# Altium schematic symbol library NodeIoT.SCHLIB: 93 symbols (part 1 of 2)
Pins are listed as number, name and electrical type; pins without a type are passive.

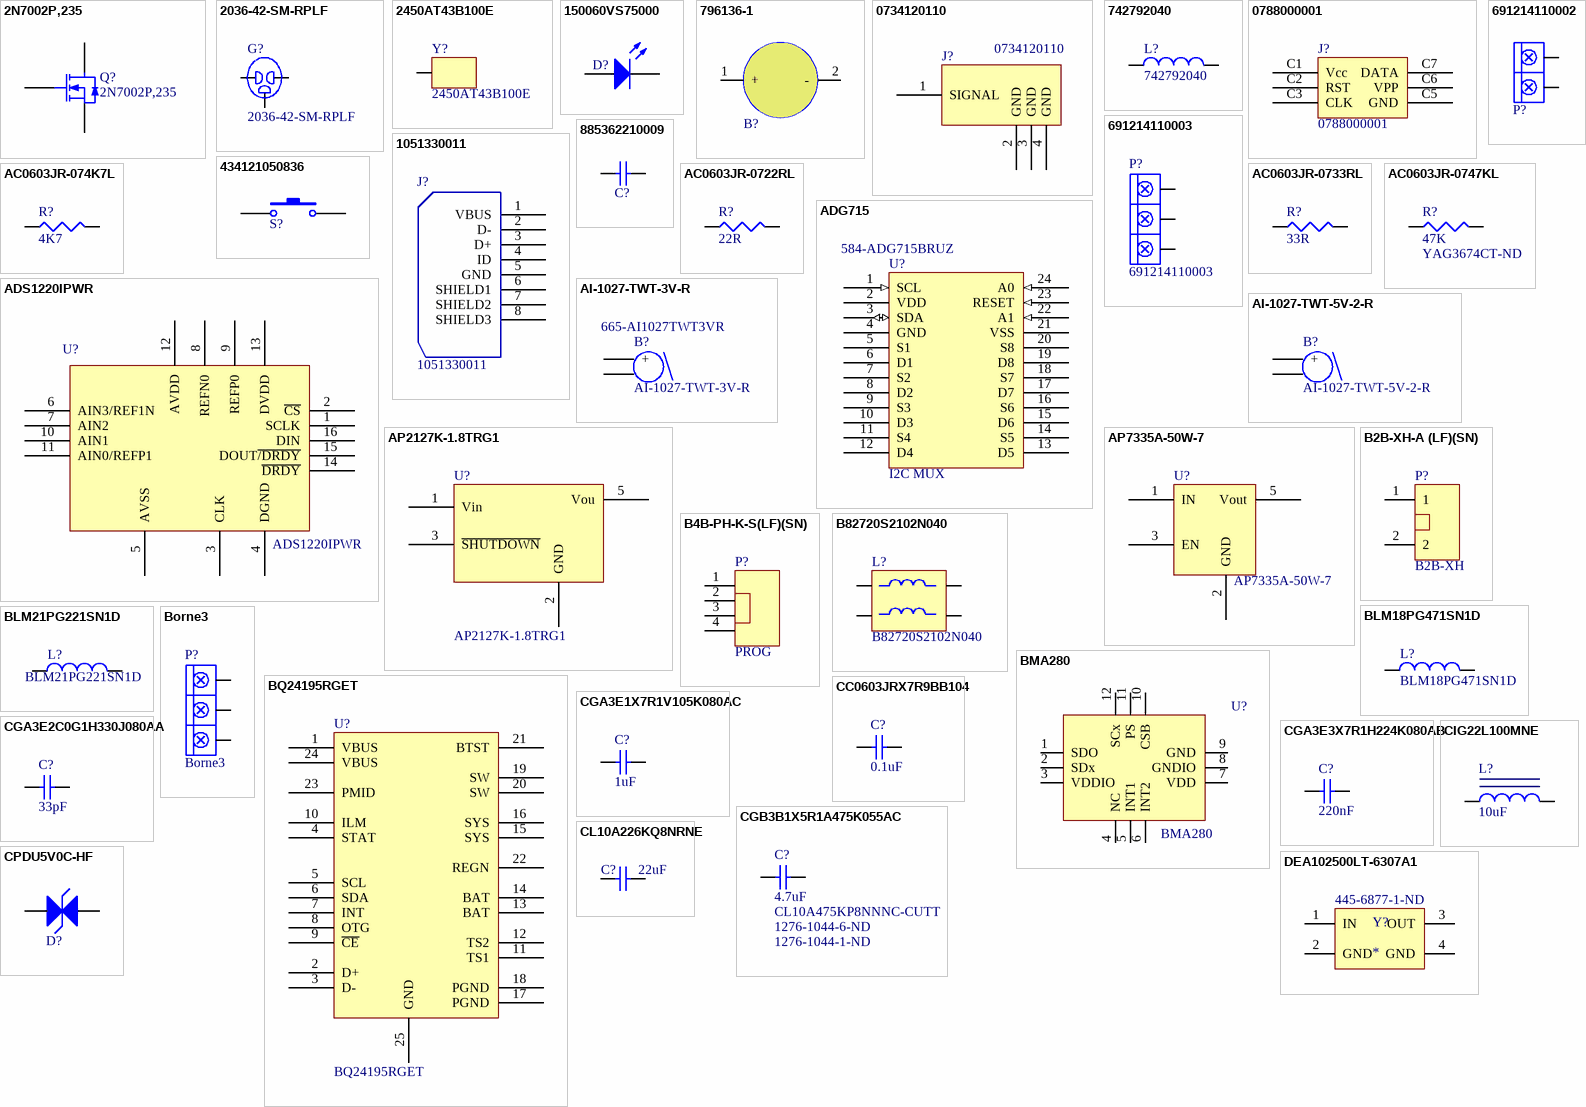
[diagram p0: symbols 2N7002P,235 to DEA102500LT-6307A1]

## 2N7002P,235
designator Q?
MOSFET N-CH 60V 0.36A SOT-23; Manufacturer: Nexperia USA Inc.; Manufacturer Part Number: 2N7002P,215; FET Type: N-Channel; Current - Continuous Drain (Id) @ 25°C: 360mA (Ta); Drive Voltage (Max Rds On,  Min Rds On): 10V; Vgs(th) (Max) @ Id: 2.4V @ 250µA; Vgs (Max): ±20V; Power Dissipation (Max): 350mW (Ta); Rds On (Max) @ Id, Vgs: 1.6 Ohm @ 500mA, 10V; Supplier 1: Digi-Key; Supplier Part Number 1: 1727-4692-1-ND; RoHS: RoHS Compliant; Category: Discrete Semiconductor Products; Stock 1: 0; Pricing 1: 1=0.17, 10=0.159, 100=0.104, 500=0.05082, 1000=0.03466 (USD); Packaging: Cut Tape (CT); Part Status: Active; Technology: MOSFET (Metal Oxide); FET Feature: -; Operating Temperature: -55°C ~ 150°C (TJ); Mounting Type: Surface Mount; Supplier Device Package: TO-236AB (SOT23); Package / Case: TO-236-3, SC-59, SOT-23-3; ComponentLink1URL: https://assets.nexperia.com/documents/data-sheet/2N7002P.pdf; ComponentLink1Description: https://assets.nexperia.com/documents/data-sheet/2N7002P.pdf
footprint SOT-23  Mosfet N (SOT-23 (TO-236))
pins: D, G, S

## 2036-42-SM-RPLF
designator G?
GDT 420V 20% 10KA SURFACE MOUNT; Manufacturer: Bourns Inc.; Impulse Discharge Current (8/20µs): 10000A (10kA); Fail Short: No; Supplier 1: Digi-Key; Manufacturer Part Number: 2036-42-SM-RPLF; RoHS: RoHS Compliant; Category: Circuit Protection; Stock 1: 660; Pricing 1: 1=2.25, 5=2.146, 10=2.038, 50=1.6446, 100=1.3943, 250=1.35852, 500=1.144 (USD); Packaging: Cut Tape (CT); Part Status: Active; Tolerance: ±20%; Mounting Type: Surface Mount; Package / Case: 3-SMD Cylinder Square End; ComponentLink1URL: http://www.bourns.com/docs/Product-Datasheets/2036-xx-SM.pdf; ComponentLink1Description: http://www.bourns.com/docs/Product-Datasheets/2036-xx-SM.pdf; Supplier Part Number 1: 2036-42-SM-RPLFCT-ND
footprint 2036-xx-SM (GDT)
pins: 1, 2, 3

## 2450AT43B100E
designator Y?
RF ANT 2.4GHZ CHIP SOLDER SMD; Manufacturer: Johanson; Impedance: 50R; Power Rating: 2W; Number of Bands: 1; Return Loss: -9.5dB; Max Frequency: 2.5GHz; Gain: -0.5dB; Supplier 1: Digi-Key; Manufacturer Part Number: 2450AT43B100E; Stock 1: 201986; Pricing 1: 1 = 0,78000, 10 = 0,68100, 25 = 0,60360, 100 = 0,52560, 250 = 0,45748, 500 = 0,38934 (USD); RoHS: Yes; Mount: Surface Mount; Case/Package: SMD/SMT; Number of Pins: 4; Contact Plating: Tin; Package Quantity: 1; Packaging: Tape and Reel; Max Power Dissipation: 2W; Termination: Solder; Frequency: 2.4GHz; Length: 7mm; Height: 0.079inch; Width: 2mm; Radiation Hardening: No; REACH SVHC: Unknown; ComponentLink1URL: https://datasheet.ciiva.com/2792/jti-antenna-2450at43b100-09042008-2792593.pdf?src-supplier=Digi-Key; ComponentLink1Description: https://datasheet.ciiva.com/2792/jti-antenna-2450at43b100-09042008-2792593.pdf?src-supplier=Digi-Key; ComponentLink2URL: https://datasheet.ciiva.com/24068/2450at43b100-242468-24068034.pdf?src-supplier=Mouser; ComponentLink2Description: https://datasheet.ciiva.com/24068/2450at43b100-242468-24068034.pdf?src-supplier=Mouser; ComponentLink3URL: https://datasheet.ciiva.com/7633/1860765-7633973.pdf?src-supplier=Element14; ComponentLink3Description: https://datasheet.ciiva.com/7633/1860765-7633973.pdf?src-supplier=Element14; Supplier Part Number 1: 712-1010-1-ND
footprint 2450AT43B100E
pins: 1

## 150060VS75000
designator D?  (value not drawn)
LED GREEN CLEAR 0603 SMD; Manufacturer: Wurth Electronics Inc.; Lens Color: Colorless; Millicandela Rating: 40mcd; Lens Style/Size: Rectangle with Flat Top, 1.10mm x 0.70mm; Voltage - Forward (Vf) (Typ): 2V; Current - Test: 20mA; Viewing Angle: 140°; Wavelength - Dominant: 570nm; Wavelength - Peak: 572nm; Supplier 1: Digi-Key; Supplier Part Number 1: 732-4980-1-ND; Manufacturer Part Number: 150060VS75000; RoHS: RoHS Compliant; Category: Optoelectronics; Stock 1: 12427; Pricing 1: 1=0.14, 50=0.129, 100=0.11, 500=0.095 (USD); Packaging: Cut Tape (CT); Part Status: Active; Color: Green; Lens Transparency: Clear; Mounting Type: Surface Mount; Features: -; Package / Case: 0603 (1608 Metric); Supplier Device Package: 0603; Size / Dimension: 1.60mm L x 0.80mm W; Height (Max): 0.80mm; ComponentLink1URL: http://katalog.we-online.de/led/datasheet/150060VS75000.pdf; ComponentLink1Description: http://katalog.we-online.de/led/datasheet/150060VS75000.pdf
footprint L603_Green
pins: 1 A, 2 K

## 796136-1
designator B?  (value not drawn)
Coin Cell Battery Holders ASSY SMT BATTERY CO; Manufacturer: TE Connectivity AMP Connectors; Battery Type, Function: Coin Cell, Holder; Style: Holder (Open); Battery Cell Size: Coin, 20.0mm; Number of Cells: 1; Battery Series: 2032; Supplier 1: Digi-Key; Supplier Part Number 1: A99327CT-ND; Manufacturer Part Number: 796136-1; Stock 1: 1935; Pricing 1: 1=2.3, 10=2.074, 50=1.3826 (USD); Category: Battery Products; Mounting Type: PCB, Surface Mount; Termination Style: SMD (SMT) Tab; Height Above Board: 0.260" (6.60mm); ComponentLink1URL: http://www.te.com/commerce/DocumentDelivery/DDEController?Action=srchrtrv&DocNm=796136&DocType=Customer+Drawing&DocLang=English; ComponentLink1Description: http://www.te.com/commerce/DocumentDelivery/DDEController?Action=srchrtrv&DocNm=796136&DocType=Customer+Drawing&DocLang=English; RoHS: RoHS Compliant; Part Status: Active; Operating Temperature: -
footprint 796136-1
pins: 1 +, 2 -

## 0734120110
designator J?
CONN UMC RCPT STR 50 OHM SMD; Manufacturer: Molex, LLC; Connector Style: Ultra Miniature Coaxial; Connector Type: Receptacle, Male Pin; Contact Termination: Solder; Impedance: 50 Ohm; Body Material: Phosphor Bronze; Body Finish: Nickel; Center Contact Plating: Gold; Dielectric Material: Liquid Crystal Polymer (LCP); Center Contact Material: Brass; Mating Cycles: 30; Supplier 1: Digi-Key; Manufacturer Part Number: 0734120110; RoHS: RoHS Compliant; Category: Connectors, Interconnects; Stock 1: 48500; Pricing 1: 1=0.73, 10=0.688, 25=0.6188, 50=0.5502, 100=0.5273, 250=0.4814, 500=0.45848, 1000=0.37825, 2500=0.34386 (USD); Packaging: Cut Tape (CT); Part Status: Active; Shield Termination: Solder; Mounting Type: Surface Mount; Mounting Feature: -; Cable Group: -; Fastening Type: Snap-On; Features: -; Housing Color: Silver; Ingress Protection: -; Includes: -; Operating Temperature: -40°C ~ 90°C; Insertion Loss: -; ComponentLink1URL: http://www.molex.com/pdm_docs/sd/734120110_sd.pdf; ComponentLink1Description: http://www.molex.com/pdm_docs/sd/734120110_sd.pdf; Supplier Part Number 1: WM5587CT-ND
footprint 0734120110
pins: 1 SIGNAL, 2 GND, 3 GND, 4 GND

## 742792040
designator L?
FERRITE BEAD 600 OHM 2.0A 0805; Manufacturer: Wurth Electronics; Catalog Drawings: WE-CBF Series_0805 Side WE-CBF Series_0805 Top; Design Resources: Spice Model Library; Featured Product: Chip Bead Ferrites WE-CBF; 3D Model: CBF 0805.igs CBF 0805.stp CBF 0805.wrl; Filter Type: Signal Line; Number of Lines: 1; Impedance @ Frequency: 600 Ohm @ 100MHz; Current Rating (Max): 2A; DC Resistance (DCR) (Max): 150 mOhm; Online Catalog: WE-CBF Series; Kits: 732-1916-ND  - KIT FERRITE SMD 0402-0805 SIZES 732-1644-ND  - KIT DESIGN FERRITE CHIP BEAD; Related Products: MAX9736AETJ+TTR-ND  - IC AMP AUDIO 35W MONO D 32TQFN MAX9736AETJ+TCT-ND  - IC AMP AUDIO 35W MONO D 32TQFN MAX9736AETJ+TDKR-ND  - IC AMP AUDIO 35W MONO D 32TQFN 296-24928-5-ND  - IC IEEE 802.3-2005 POE 14TSSOP 296-23547-5-ND  - IC IEEE 802.3-2005 POE 14-TSSOP MAX98400AETX+-ND  - IC AMP AUDIO STEREO D 36TQFN MAX9736AETJ+-ND  - IC AMP AUDIO 35W MONO D 32TQFN 296-39366-2-ND  - IC IEEE 802.3-2005 POE 14TSSOP MAX98400BETG+TR-ND  - IC AMP AUDIO STEREO D 24TQFN 296-39365-2-ND  - IC POE INTERFACE SWITCH 14TSSOP MAX98400BETG+-ND  - IC AMP AUDIO STEREO D 24TQFN MAX9736DETJ+-ND  - IC AMP CLASS D HIGH PWR 32TQFN TPS23753PWRG4-ND  - IC IEEE 802.3-2005 POE 14-TSSOP MAX98400AETX+T-ND  - IC AMP AUDIO STEREO D 36TQFN MAX9736DETJ+T-ND  - IC AMP CLASS D HIGH PWR 32TQFN MAX9736AETJ/V+T-ND  - IC AMP MONO/STER CLASS D 32TQFN TPS23753PWG4-ND  - IC IEEE 802.3-2005 POE 14-TSSOP MAX9736AETJ/V+-ND  - IC AMP MONO/STER CLASS D 32TQFN; Other Names: 732-1620-1; Supplier 1: Digi-Key; Supplier Part Number 1: 732-1620-6-ND; Manufacturer Part Number: 742792040; Stock 1: 171987; Pricing 1: 1=0.22, 50=0.21, 100=0.193, 500=0.185, 1000=0.176, 2000=0.168 (USD); Standard Package: 1; Category: Filters; Family: Ferrite Beads and Chips; Series: WE-CBF; Packaging: Cut Tape (CT); Ratings: -; Operating Temperature: -55°C ~ 125°C; Package / Case: 0805 (2012 Metric); Mounting Type: Surface Mount; Height (Max): 0.043" (1.10mm); Size / Dimension: 0.079" L x 0.047" W (2.00mm x 1.20mm); ComponentLink1URL: https://datasheet.ciiva.com/1560/742792040-1560864.pdf; ComponentLink1Description: https://datasheet.ciiva.com/1560/742792040-1560864.pdf
footprint R805
pins: 1, 2

## 0788000001
designator J?
CONN MICRO SIM CARD HINGED TYPE; Manufacturer: Molex, LLC; Number of Positions: 6; Connector Type: Connector and Ejector; Insertion, Removal Method: Hinged Lid; Supplier 1: Digi-Key; Manufacturer Part Number: 0788000001; RoHS: RoHS Compliant; Category: Connectors, Interconnects; Stock 1: 37432; Pricing 1: 1=1.51, 10=1.366, 25=1.2824, 50=1.2266, 100=1.1709, 250=1.05944, 500=0.97578 (USD); Packaging: Cut Tape (CT); Part Status: Active; Card Type: Micro SIM; Ejector Side: -; Mounting Type: Surface Mount, Right Angle; Features: -; Height Above Board: 0.055" (1.40mm); Mounting Feature: Normal, Standard - Top; Contact Finish: Gold; Contact Finish Thickness: 15µin (0.38µm); ComponentLink1URL: http://www.molex.com/pdm_docs/sd/788000001_sd.pdf; ComponentLink1Description: http://www.molex.com/pdm_docs/sd/788000001_sd.pdf; Supplier Part Number 1: WM9786CT-ND
footprint 788000001
pins: C1 Vcc, C2 RST, C3 CLK, C5 GND, C6 VPP, C7 DATA

## 1051330011
designator J?
CONN MICRO USB B 2.0 VERT SMT; Manufacturer: Molex, LLC; Connector Type: USB - micro B; Number of Contacts: 5; Gender: Receptacle; Specifications: USB 2.0; Current Rating: 1A, 1.8A; Voltage - Rated: 30VAC; Mating Cycles: 10000; Shielding: Shielded; Material Flammability Rating: UL94 V-0; Supplier 1: Digi-Key; Supplier Part Number 1: WM10134CT-ND; Manufacturer Part Number: 1051330011; RoHS: RoHS Compliant; Category: Connectors, Interconnects; Stock 1: 119076; Pricing 1: 1=1.06, 10=0.928, 25=0.8732, 50=0.837, 100=0.8005, 250=0.72776 (USD); Packaging: Cut Tape (CT); Part Status: Active; Mounting Type: Surface Mount; Mounting Feature: Vertical; Termination: Solder; Features: Pick and Place; Ingress Protection: -; Operating Temperature: -35°C ~ 85°C; Contact Finish: Gold; Shell/Shielding Material: Steel, Stainless; Insulation Color: Black; ComponentLink1URL: https://www.molex.com/pdm_docs/sd/1051330011_sd.pdf; ComponentLink1Description: https://www.molex.com/pdm_docs/sd/1051330011_sd.pdf
footprint 1051330011
pins: 1 VBUS, 2 D-, 3 D+, 4 ID, 5 GND, 6 SHIELD1, 7 SHIELD2, 8 SHIELD3

## 434121050836
designator S?  (value not drawn)
SWITCH TACTILE SPST-NO 0.05A 12V; Manufacturer: Wurth Electronics Inc.; Switch Function: Off-Mom; Contact Rating @ Voltage: 0.05A @ 12VDC; Actuator Type: Rectangular Button; Actuator Height off PCB, Vertical: 5.00mm; Actuator Orientation: Top Actuated; Outline: 6.00mm x 3.50mm; Illumination: Non-Illuminated; Operating Force: 360gf; Actuator Material: Liquid Crystal Polymer (LCP); Switch Travel: 0.25mm; Mechanical Life: 50,000 Cycles; Supplier 1: Digi-Key; Supplier Part Number 1: 732-7049-1-ND; Manufacturer Part Number: 434121050836; RoHS: RoHS Compliant; Category: Switches; Stock 1: 996; Pricing 1: 1=0.39, 750=0.3132 (USD); Packaging: Cut Tape (CT); Part Status: Active; Circuit: SPST-NO; Mounting Type: Surface Mount; Actuator Length, Right Angle: -; Termination Style: SMD (SMT) Tab; Illumination Type, Color: -; Illumination Voltage (Nominal): -; Ingress Protection: -; Features: -; Operating Temperature: -40°C ~ 85°C; ComponentLink1URL: http://katalog.we-online.de/em/datasheet/434121050836.pdf; ComponentLink1Description: http://katalog.we-online.de/em/datasheet/434121050836.pdf; Supplier 2: Digi-Key; Supplier Part Number 2: 1642-1326-1-ND; Stock 2: 7632; Pricing 2: 1=0.46, 10=0.446, 25=0.4372, 50=0.4208, 100=0.363, 250=0.33, 500=0.3135, 1000=0.2475 (USD); ComponentLink2URL: http://ce.citizen.co.jp/up_img/product/autPayYlUa5r/LS8_Series_e.pdf; ComponentLink2Description: http://ce.citizen.co.jp/up_img/product/autPayYlUa5r/LS8_Series_e.pdf
footprint 434121050836
pins: 1, 2

## 691214110002
designator P?  (value not drawn)
Receptor 2 Posições 90graus 3.50mm pitch.; Manufacturer: Wurth Electronics Inc.; Positions Per Level: 2; Pitch: 0.138" (3.50mm); Mating Orientation: Horizontal with Board; Wire Gauge: 16-24 AWG; Wire Termination: Screw - Rising Cage Clamp; Clamp Material - Plating: Brass; Screw Material - Plating: Steel - Zinc Plated; Torque - Screw: 0.2 Nm (1.7 Lb-In); Screw Thread: M2; Supplier 1: Digi-Key; Manufacturer Part Number: 691214110002; RoHS: RoHS Compliant; Category: Connectors, Interconnects; Stock 1: 1045; Pricing 1: 1=0.83, 10=0.739, 50=0.638, 100=0.571, 500=0.538, 1400=0.504 (USD); Packaging: Bulk; Part Status: Active; Mounting Type: Through Hole; Features: Interlocking (Side); Color: Blue; Operating Temperature: -40°C ~ 105°C; Housing Material: Polyamide (PA66), Nylon 6/6; Contact Material - Plating: Brass - Tin Plated; ComponentLink1URL: http://katalog.we-online.de/em/datasheet/6912141100xx.pdf; ComponentLink1Description: http://katalog.we-online.de/em/datasheet/6912141100xx.pdf; Supplier Part Number 1: 732-2747-ND
footprint Plug 2P  3.50mm
pins: 1, 2

## 691214110003
designator P?
Receptor 3 vias 90 graus, 3.50 mm pitch.; Manufacturer: Wurth Electronics Inc.; Positions Per Level: 3; Pitch: 0.138" (3.50mm); Mating Orientation: Horizontal with Board; Wire Gauge: 16-24 AWG; Wire Termination: Screw - Rising Cage Clamp; Clamp Material - Plating: Brass; Screw Material - Plating: Steel - Zinc Plated; Torque - Screw: 0.2 Nm (1.7 Lb-In); Screw Thread: M2; Supplier 1: Digi-Key; Manufacturer Part Number: 691214110003; RoHS: RoHS Compliant; Category: Connectors, Interconnects; Stock 1: 2374; Pricing 1: 1=1.1, 10=0.986, 50=0.851, 100=0.762, 500=0.717, 1000=0.672 (USD); Packaging: Bulk; Part Status: Active; Mounting Type: Through Hole; Features: Interlocking (Side); Color: Blue; Operating Temperature: -40°C ~ 105°C; Housing Material: Polyamide (PA66), Nylon 6/6; Contact Material - Plating: Brass - Tin Plated; ComponentLink1URL: http://katalog.we-online.de/em/datasheet/6912141100xx.pdf; ComponentLink1Description: http://katalog.we-online.de/em/datasheet/6912141100xx.pdf; Supplier Part Number 1: 732-2748-ND
footprint Plug 3P  3.50mm
pins: 1, 2, 3

## 885362210009
designator C?  (value not drawn)
CAP CER 470PF 250VAC X7R 1808; Manufacturer: Wurth Electronics Inc.; Tolerance: ±10%; Voltage - Rated: 250V; Ratings: X2, Y3; Supplier 1: Digi-Key; Manufacturer Part Number: 885362210009; RoHS: RoHS Compliant; Category: Capacitors; Stock 1: 1095; Pricing 1: 1=0.4, 50=0.3324, 100=0.2818, 250=0.24036, 500=0.2024 (USD); Packaging: Cut Tape (CT); Part Status: Active; Temperature Coefficient: X7R; Operating Temperature: -55°C ~ 125°C; Features: -; Applications: Safety; Mounting Type: Surface Mount, MLCC; Package / Case: 1808 (4520 Metric); Size / Dimension: 0.177" L x 0.079" W (4.50mm x 2.00mm); Height - Seated (Max): -; Thickness (Max): 0.071" (1.80mm); Lead Spacing: -; Lead Style: -; ComponentLink1URL: http://katalog.we-online.de/pbs/datasheet/885362210009.pdf; ComponentLink1Description: http://katalog.we-online.de/pbs/datasheet/885362210009.pdf; Supplier Part Number 1: 732-10337-1-ND
footprint C1808
pins: 1, 2

## AC0603JR-074K7L
designator R?, comment 4K7
Thick Film Resistors 1/10W 4.7K ohm 5% AEC-Q200; Manufacturer: Yageo; Manufacturer Part Number: AC0603JR-074K7L; Temperature Coefficient: ±100ppm/°C; Power (Watts): 0.1W, 1/10W; Supplier 1: Digi-Key; Stock 1: 1454; Pricing 1: 1=0.1, 10=0.024, 100=0.0097, 1000=0.00436, 2500=0.00378 (USD); RoHS: RoHS Compliant; Tolerance: ±5%; Package / Case: 0603 (1608 Metric); Packaging: Cut Tape (CT); ComponentLink1URL: http://www.yageo.com/NewPortal/yageodocoutput?fileName=/pdf/R-Chip/PYu-AC_51_RoHS_L_6.pdf; ComponentLink1Description: http://www.yageo.com/NewPortal/yageodocoutput?fileName=/pdf/R-Chip/PYu-AC_51_RoHS_L_6.pdf; Supplier Part Number 1: YAG3676CT-ND; Category: Resistors; Part Status: Active; Composition: Thick Film; Features: Automotive AEC-Q200, Moisture Resistant; Operating Temperature: -55°C ~ 155°C; Supplier Device Package: 0603; Size / Dimension: 0.063" L x 0.032" W (1.60mm x 0.80mm); Height - Seated (Max): 0.022" (0.55mm); Failure Rate: -
footprint R603
pins: 1, 2

## AC0603JR-0722RL
designator R?, comment 22R
Thick Film Resistors - SMD 1/10W 22ohm 5%; Manufacturer: Yageo; Manufacturer Part Number: AC0603JR-0722RL; Temperature Coefficient: ±100ppm/°C; Power (Watts): 0.1W, 1/10W; Supplier 1: Digi-Key; Supplier Part Number 1: YAG3654CT-ND; Stock 1: 42180; Pricing 1: 1=0.1, 10=0.024, 100=0.0097, 1000=0.00436, 2500=0.00378 (USD); Package / Case: 0603 (1608 Metric); Packaging: Cut Tape (CT); RoHS: RoHS Compliant; Tolerance: ±5%; ComponentLink1URL: http://www.yageo.com/NewPortal/yageodocoutput?fileName=/pdf/R-Chip/PYu-AC_51_RoHS_L_6.pdf; ComponentLink1Description: http://www.yageo.com/NewPortal/yageodocoutput?fileName=/pdf/R-Chip/PYu-AC_51_RoHS_L_6.pdf; Category: Resistors; Part Status: Active; Composition: Thick Film; Features: Automotive AEC-Q200, Moisture Resistant; Operating Temperature: -55°C ~ 155°C; Supplier Device Package: 0603; Size / Dimension: 0.063" L x 0.032" W (1.60mm x 0.80mm); Height - Seated (Max): 0.022" (0.55mm); Failure Rate: -
footprint R603
pins: 1, 2

## AC0603JR-0733RL
designator R?, comment 33R
Thick Film Resistors - SMD 1/10W 33ohm 5%; Manufacturer: Yageo; Manufacturer Part Number: AC0603JR-0733RL; Temperature Coefficient: ±100ppm/°C; Power (Watts): 0.1W, 1/10W; Supplier 1: Digi-Key; Stock 1: 38895; Pricing 1: 1=0.1, 10=0.024, 100=0.0097, 1000=0.00436, 2500=0.00378 (USD); Tolerance: ±5%; Packaging: Cut Tape (CT); ComponentLink1URL: http://www.yageo.com/NewPortal/yageodocoutput?fileName=/pdf/R-Chip/PYu-AC_51_RoHS_L_6.pdf; ComponentLink1Description: http://www.yageo.com/NewPortal/yageodocoutput?fileName=/pdf/R-Chip/PYu-AC_51_RoHS_L_6.pdf; Supplier Part Number 1: YAG3666CT-ND; RoHS: RoHS Compliant; Category: Resistors; Part Status: Active; Composition: Thick Film; Features: Automotive AEC-Q200, Moisture Resistant; Operating Temperature: -55°C ~ 155°C; Package / Case: 0603 (1608 Metric); Supplier Device Package: 0603; Size / Dimension: 0.063" L x 0.032" W (1.60mm x 0.80mm); Height - Seated (Max): 0.022" (0.55mm); Failure Rate: -
footprint R603
pins: 1, 2

## AC0603JR-0747KL
designator R?, comment 47K  Supplier Part Number 1: YAG3674CT-ND
Thick Film Resistors - SMD 1/10W 47K ohm 5%; Manufacturer: Yageo; Manufacturer Part Number: AC0603JR-0747KL; Temperature Coefficient: ±100ppm/°C; Power (Watts): 0.1W, 1/10W; Supplier 1: Digi-Key; Stock 1: 4908; Pricing 1: 1=0.1, 10=0.024, 100=0.0097, 1000=0.00436, 2500=0.00378 (USD); Package / Case: 0603 (1608 Metric); Packaging: Cut Tape (CT); RoHS: RoHS Compliant; Tolerance: ±5%; ComponentLink1URL: http://www.yageo.com/NewPortal/yageodocoutput?fileName=/pdf/R-Chip/PYu-AC_51_RoHS_L_6.pdf; ComponentLink1Description: http://www.yageo.com/NewPortal/yageodocoutput?fileName=/pdf/R-Chip/PYu-AC_51_RoHS_L_6.pdf; Category: Resistors; Part Status: Active; Composition: Thick Film; Features: Automotive AEC-Q200, Moisture Resistant; Operating Temperature: -55°C ~ 155°C; Supplier Device Package: 0603; Size / Dimension: 0.063" L x 0.032" W (1.60mm x 0.80mm); Height - Seated (Max): 0.022" (0.55mm); Failure Rate: -
footprint R603
pins: 1, 2

## ADG715
designator U?, comment I2C MUX  Supplier Part Number 1: 584-ADG715BRUZ
Analog Switch ICs 2.5 Ohm 2.7V CMOS Octal SPST; Manufacturer Part Number: ADG715BRUZ; Supplier 1: Mouser
footprint TSOP65P640X120V2 (TSOP, 24-Leads, Body 7,80x4,40mm, Pitch 0,65mm, IPC Medium Density)
pins: 1 SCL (in), 2 VDD (power), 3 SDA (io), 4 GND (power), 5 S1, 6 D1, 7 S2, 8 D2, 9 S3, 10 D3, 11 S4, 12 D4, 13 D5, 14 S5, 15 D6, 16 S6, 17 D7, 18 S7, 19 D8, 20 S8, 21 VSS (power), 22 A1 (in), 23 RESET (in), 24 A0 (in)

## ADS1220IPWR
designator U?
IC ADC 24-BIT 2KSPS 16-TSSOP; Manufacturer: Texas Instruments; Number of Bits: 24; Sampling Rate (Per Second): 2k; Number of Inputs: 2, 4; Input Type: Differential, Single Ended; Data Interface: SPI; Configuration: MUX-PGA-ADC; Architecture: Sigma-Delta; Reference Type: External, Internal; Voltage - Supply, Analog: 2.3 V ~ 5.5 V, ±2.5; Voltage - Supply, Digital: 2.3 V ~ 5.5 V; Supplier 1: Digi-Key; Supplier Part Number 1: 296-39851-1-ND; Manufacturer Part Number: ADS1220IPWR; RoHS: RoHS Compliant; Category: Integrated Circuits (ICs); Stock 1: 6493; Pricing 1: 1=8.52, 10=7.698, 100=6.3729, 500=5.54944, 1000=4.83338 (USD); Packaging: Cut Tape (CT); Part Status: Active; Ratio - S/H:ADC: -; Features: PGA, Temperature Sensor; Operating Temperature: -40°C ~ 125°C; Package / Case: 16-TSSOP (0.173", 4.40mm Width); Supplier Device Package: 16-TSSOP; Base Part Number: ADS1220; ComponentLink1URL: http://www.ti.com/lit/ds/symlink/ads1220.pdf; ComponentLink1Description: http://www.ti.com/lit/ds/symlink/ads1220.pdf
footprint TSSOP-16
pins: 1 SCLK, 2 ~{CS}, 3 CLK, 4 DGND, 5 AVSS, 6 AIN3/REF1N, 7 AIN2, 8 REFN0, 9 REFP0, 10 AIN1, 11 AIN0/REFP1, 12 AVDD, 13 DVDD, 14 ~{DRDY}, 15 DOUT~{/DRDY}, 16 DIN

## AI-1027-TWT-3V-R
designator B?  Supplier Part Number 1: 665-AI1027TWT3VR
AUDIO MAGNETIC INDICATOR 3-7V TH for 3V; Manufacturer: Projects Unlimited; Manufacturer Part Number: AI-1027-TWT-5V-2-R; Voltage Rating: 5V; Frequency: 2.73kHz; Operating Supply Current: 30mA; Max Supply Voltage (DC): 7V; Mount: Through Hole; Contact Plating: Gold; Min Operating Temperature: -20°C; Max Operating Temperature: 70°C; Packaging: Tray; Termination: PC Pins; Max Supply Current: 30mA; Min Supply Voltage (DC): 3V; Sensing Method: Magnetic; Diameter: 9.6mm; Height: 5mm; Supplier 1: Mouser
footprint AI-1027-TWT-5V-2-R (AUDIO MAGNETIC INDICATOR 3-7V TH)
pins: 1 +, 2

## AI-1027-TWT-5V-2-R
designator B?
AUDIO MAGNETIC INDICATOR 3-7V TH; Manufacturer: Projects Unlimited; Voltage Rating: 5V; Frequency: 2.73kHz; Operating Supply Current: 30mA; Max Supply Voltage (DC): 7V; Min Supply Voltage (DC): 3V; Supplier 1: Digi-Key; Manufacturer Part Number: AI-1027-TWT-5V-2-R; Stock 1: 6992; Pricing 1: 1=1.69, 10=1.34, 25=1.224, 50=1.1424, 100=1.0676, 300=0.9724, 500=0.9044, 1000=0.85 (USD); Mount: Through Hole; Contact Plating: Gold; Min Operating Temperature: -20°C; Max Operating Temperature: 70°C; Packaging: Tray; Termination: PC Pins; Max Supply Current: 30mA; Sensing Method: Magnetic; Diameter: 9.6mm; Height: 5mm; Supplier Part Number 1: 668-1454-ND
footprint AI-1027-TWT-5V-2-R (AUDIO MAGNETIC INDICATOR 3-7V TH)
pins: 1 +, 2

## AP2127K-1.8TRG1
designator U?
IC REG LINEAR 1.8V 300MA SOT23-5; Manufacturer: Diodes Incorporated; Output Configuration: Positive; Output Type: Fixed; Voltage - Input (Max): 6V; Voltage Dropout (Max): 0.7V @ 300mA; Protection Features: Over Current, Over Temperature; Supplier 1: Digi-Key; Manufacturer Part Number: AP2127K-1.8TRG1; RoHS: RoHS Compliant; Category: Integrated Circuits (ICs); Stock 1: 21377; Pricing 1: 1=0.48, 10=0.356, 100=0.2016, 500=0.1335, 1000=0.10235 (USD); Packaging: Cut Tape (CT); Part Status: Active; Voltage - Output (Min/Fixed): 1.8V; Voltage - Output (Max): -; Current - Output: 300mA; PSRR: -; Control Features: -; Operating Temperature: -40°C ~ 85°C; Mounting Type: Surface Mount; Package / Case: SC-74A, SOT-753; Supplier Device Package: SOT-23-5; ComponentLink1URL: https://www.diodes.com/assets/Datasheets/AP2127.pdf; ComponentLink1Description: https://www.diodes.com/assets/Datasheets/AP2127.pdf; Supplier Part Number 1: AP2127K-1.8TRG1DICT-ND
footprint SOT-23-5
pins: 1 Vin, 2 GND, 3 ~{SHUTDOWN}, 5 Vou

## AP7335A-50W-7
designator U?
IC REG LINEAR 5V 300MA SOT25; Manufacturer: Diodes Incorporated; Output Configuration: Positive; Output Type: Fixed; Voltage - Input (Max): 6V; Voltage Dropout (Max): 0.2V @ 300mA; PSRR: 65dB (1kHz); Control Features: Enable; Protection Features: Over Current, Over Temperature, Short Circuit; Supplier 1: Digi-Key; Supplier Part Number 1: AP7335A-50W-7DICT-ND; Manufacturer Part Number: AP7335A-50W-7; RoHS: RoHS Compliant; Category: Integrated Circuits (ICs); Stock 1: 4274; Pricing 1: 1=0.37, 10=0.303, 100=0.206, 500=0.15452, 1000=0.11588 (USD); Packaging: Cut Tape (CT); Part Status: Active; Voltage - Output (Min/Fixed): 5V; Voltage - Output (Max): -; Current - Output: 300mA; Operating Temperature: -40°C ~ 85°C; Mounting Type: Surface Mount; Package / Case: SC-74A, SOT-753; Supplier Device Package: SOT-25; ComponentLink1URL: https://www.diodes.com/assets/Datasheets/AP7335A_50.pdf; ComponentLink1Description: https://www.diodes.com/assets/Datasheets/AP7335A_50.pdf
footprint SOT-23-5
pins: 1 IN, 2 GND, 3 EN, 4 NC hidden, 5 Vout

## B2B-XH-A (LF)(SN)
designator P?, comment B2B-XH
CONNECTOR HEADER, XH SERIES, 2 POSITION, 2.50MM, Press-Fit Solder, Detent Lock, Natural; Manufacturer: JST; Manufacturer Part Number: B2B-XH-A (LF)(SN); Current Rating: 3A; Voltage Rating: 250V; Number of Positions: 2; Connector Type: Male Pin; Contact Resistance: 20mR; Insulation Resistance: 1GR; Pitch: 2.5mm; Wire/Cable Gauge: 22AWG; Supplier 1: Digi-Key; Stock 1: 212067; Pricing 1: 1 = 0,150000, 10 = 0,141000, 100 = 0,086800, 500 = 0,071820, 1000 = 0,062840, 5000 = 0,053870, 10000 = 0,052370 (USD); Mount: Through Hole; Contact Material: Brass; Contact Plating: Tin; Color: Natural; Housing Color: White; Housing Material: Polyamide; Min Operating Temperature: -25°C; Max Operating Temperature: 85°C; Number of Rows: 1; Termination: Solder; Packaging: Bulk; Number of Contacts: 2; Orientation: Straight; Max Current Rating: 3A; Voltage Rating (AC): 250V; Fastening Type: Detent; Max Voltage Rating (AC): 250V; Max Voltage Rating (DC): 250V; Length: 7.4mm; Lead Pitch: 2.5mm; Depth: 5.75mm; REACH SVHC: No SVHC; Lead Free: Lead Free; ComponentLink1URL: https://datasheet.ciiva.com/26894/getdatasheetpartid-640357-26894434.pdf?src-supplier=Verical; ComponentLink1Description: https://datasheet.ciiva.com/26894/getdatasheetpartid-640357-26894434.pdf?src-supplier=Verical; ComponentLink2URL: https://datasheet.ciiva.com/11746/0900766b8082653e-11746979.pdf?src-supplier=RSComponents; ComponentLink2Description: https://datasheet.ciiva.com/11746/0900766b8082653e-11746979.pdf?src-supplier=RSComponents; ComponentLink3URL: https://datasheet.ciiva.com/26894/getdatasheetpartid-385291-26894760.pdf?src-supplier=Verical; ComponentLink3Description: https://datasheet.ciiva.com/26894/getdatasheetpartid-385291-26894760.pdf?src-supplier=Verical; ComponentLink4URL: https://datasheet.ciiva.com/8052/5448-8052024.pdf?src-supplier=Element14; ComponentLink4Description: https://datasheet.ciiva.com/8052/5448-8052024.pdf?src-supplier=Element14; ComponentLink5URL: https://datasheet.ciiva.com/20207/523653-20207167.pdf?src-supplier=Rapid+Electronics; ComponentLink5Description: https://datasheet.ciiva.com/20207/523653-20207167.pdf?src-supplier=Rapid+Electronics; ComponentLink6URL: http://datasheet.octopart.com/B2B-XH-A%28LF%29%28SN%29-JST-datasheet-63094.pdf?src-supplier=Future+Electronics; ComponentLink6Description: http://datasheet.octopart.com/B2B-XH-A%28LF%29%28SN%29-JST-datasheet-63094.pdf?src-supplier=Future+Electronics; ComponentLink7URL: http://datasheet.octopart.com/B2B-XH-A%28LF%29%28SN%29-JST-datasheet-10026044.pdf?src-supplier=Future+Electronics; ComponentLink7Description: http://datasheet.octopart.com/B2B-XH-A%28LF%29%28SN%29-JST-datasheet-10026044.pdf?src-supplier=Future+Electronics; ComponentLink8URL: http://datasheet.octopart.com/B2B-XH-A%28LF%29%28SN%29-JST-datasheet-8325564.pdf?src-supplier=Future+Electronics; ComponentLink8Description: http://datasheet.octopart.com/B2B-XH-A%28LF%29%28SN%29-JST-datasheet-8325564.pdf?src-supplier=Future+Electronics; ComponentLink9URL: http://datasheet.octopart.com/B2B-XH-A%28LF%29%28SN%29-JST-datasheet-12510042.pdf?src-supplier=Future+Electronics; ComponentLink9Description: http://datasheet.octopart.com/B2B-XH-A%28LF%29%28SN%29-JST-datasheet-12510042.pdf?src-supplier=Future+Electronics; ComponentLink10URL: http://datasheet.octopart.com/B2B-XH-A-%28LF%29%28SN%29-JST-datasheet-63094.pdf?src-supplier=Element14; ComponentLink10Description: http://datasheet.octopart.com/B2B-XH-A-%28LF%29%28SN%29-JST-datasheet-63094.pdf?src-supplier=Element14; ComponentLink11URL: http://datasheet.octopart.com/B2B-XH-A-%28LF%29%28SN%29-JST-datasheet-62336360.pdf?src-supplier=Element14; ComponentLink11Description: http://datasheet.octopart.com/B2B-XH-A-%28LF%29%28SN%29-JST-datasheet-62336360.pdf?src-supplier=Element14; ComponentLink12URL: http://datasheet.octopart.com/B2B-XH-A-%28LF%29%28SN%29-JST-datasheet-8325564.pdf?src-supplier=Newark; ComponentLink12Description: http://datasheet.octopart.com/B2B-XH-A-%28LF%29%28SN%29-JST-datasheet-8325564.pdf?src-supplier=Newark; ComponentLink13URL: http://datasheet.octopart.com/B2B-XH-A-%28LF%29%28SN%29-JST-datasheet-12510042.pdf?src-supplier=Newark; ComponentLink13Description: http://datasheet.octopart.com/B2B-XH-A-%28LF%29%28SN%29-JST-datasheet-12510042.pdf?src-supplier=Newark; ComponentLink14URL: http://datasheet.octopart.com/B2B-XH-A-%28LF%29%28SN%29-JST-datasheet-41261050.pdf?src-supplier=Newark; ComponentLink14Description: http://datasheet.octopart.com/B2B-XH-A-%28LF%29%28SN%29-JST-datasheet-41261050.pdf?src-supplier=Newark; Supplier Part Number 1: 455-2247-ND
footprint B2B-XH
pins: 1, 2

## B4B-PH-K-S(LF)(SN)
designator P?, comment PROG
CONN HEADER VERT 4POS 2MM; Manufacturer: JST; Manufacturer Part Number: B4B-PH-K-S(LF)(SN); Current Rating: 2A; Contact Resistance: 20mR; Number of Positions: 4; Insulation Resistance: 1MR; Gender: Male; Connector Type: Male Pin; Voltage Rating: 100V; Supplier 1: Digi-Key; Stock 1: 142225; Pricing 1: 1 = 0,240000, 10 = 0,227000, 100 = 0,157300, 500 = 0,133120, 1000 = 0,108920, 5000 = 0,096820, 10000 = 0,087740 (USD); RoHS: Yes; Mount: Through Hole; Number of Pins: 4; Contact Material: Brass; Contact Plating: Tin; Color: Natural; Housing Color: White; Housing Material: Polyamide; Material: Polyamide; Min Operating Temperature: -25°C; Max Operating Temperature: 85°C; Number of Rows: 1; Packaging: Bulk; Termination: Solder; Fastening Type: Detent; Number of Contacts: 4; Orientation: Straight; Max Current Rating: 2A; Number of Poles: 4; Voltage Rating (AC): 100V; Max Voltage Rating (AC): 100V; Max Voltage Rating (DC): 100V; Working Voltage: 100V; Length: 9.9mm; Height: 9.4mm; Width: 4.5mm; Pitch: 2mm; Contact Mating Length: 0.13inch; Lead Pitch: 2mm; Depth: 4.5mm; Lead Free: Lead Free; REACH SVHC: No SVHC; ComponentLink1URL: https://datasheet.ciiva.com/11747/0900766b8082f552-11747200.pdf?src-supplier=RSComponents; ComponentLink1Description: https://datasheet.ciiva.com/11747/0900766b8082f552-11747200.pdf?src-supplier=RSComponents; ComponentLink2URL: https://datasheet.ciiva.com/712/eph-712488.pdf?src-supplier=Digi-Key; ComponentLink2Description: https://datasheet.ciiva.com/712/eph-712488.pdf?src-supplier=Digi-Key; ComponentLink3URL: https://datasheet.ciiva.com/16209/eph-16209245.pdf?src-supplier=Future+Electronics; ComponentLink3Description: https://datasheet.ciiva.com/16209/eph-16209245.pdf?src-supplier=Future+Electronics; ComponentLink4URL: https://datasheet.ciiva.com/43491/741223-da-01-en-stiftleiste-gerade-4-pol-rm2-0-43491964.pdf?src-supplier=Conrad; ComponentLink4Description: https://datasheet.ciiva.com/43491/741223-da-01-en-stiftleiste-gerade-4-pol-rm2-0-43491964.pdf?src-supplier=Conrad; Supplier Part Number 1: 455-1706-ND
footprint B4B-PH-K-S
pins: 1, 2, 3, 4

## B82720S2102N040
designator L?
COMMON MODE CHOKE 3MH 1A 2LN SMD; Manufacturer: EPCOS (TDK); Filter Type: Power Line; Number of Lines: 2; DC Resistance (DCR) (Max): 220 mOhm (Typ); Voltage Rating - AC: 250V; Supplier 1: Digi-Key; Supplier Part Number 1: 495-5722-1-ND; Manufacturer Part Number: B82720S2102N040; RoHS: RoHS Compliant; Category: Filters; Stock 1: 2079; Pricing 1: 1=2.82, 10=2.601, 100=1.8209 (USD); Packaging: Cut Tape (CT); Part Status: Active; Current Rating (Max): 1A; Voltage Rating - DC: -; Operating Temperature: -40°C ~ 125°C; Ratings: -; Approvals: -; Features: -; Mounting Type: Surface Mount; Size / Dimension: 0.571" L x 0.524" W (14.50mm x 13.30mm); Height (Max): 0.421" (10.70mm); Package / Case: Horizontal, 8 Gull Wing; ComponentLink1URL: https://en.tdk.eu/inf/30/db/ind_2008/b82720s.pdf; ComponentLink1Description: https://en.tdk.eu/inf/30/db/ind_2008/b82720s.pdf
footprint B82720s (Common choke inductor)
pins: 1, 4, 5, 8

## BLM18PG471SN1D
designator L?
FERRITE BEAD 470 OHM 0603 1LN; Manufacturer: Murata Electronics North America; Filter Type: Power Line; Current Rating (Max): 1A; DC Resistance (DCR) (Max): 200 mOhm; Supplier 1: Digi-Key; Manufacturer Part Number: BLM18PG471SN1D; RoHS: RoHS Compliant; Category: Filters; Stock 1: 453983; Pricing 1: 1=0.1, 10=0.076, 25=0.0684, 50=0.05, 100=0.0433, 250=0.03416, 500=0.02884, 1000=0.02429 (USD); Packaging: Cut Tape (CT); Part Status: Active; Ratings: -; Operating Temperature: -55°C ~ 125°C; Package / Case: 0603 (1608 Metric); Mounting Type: Surface Mount; Height (Max): 0.037" (0.95mm); Size / Dimension: 0.063" L x 0.032" W (1.60mm x 0.80mm); ComponentLink1URL: https://www.murata.com/en-us/products/productdata/8796738650142/ENFA0003.pdf; ComponentLink1Description: https://www.murata.com/en-us/products/productdata/8796738650142/ENFA0003.pdf; Supplier Part Number 1: 490-5223-1-ND
footprint L603
pins: 1, 2

## BLM21PG221SN1D
designator L?
FERRITE CHIP 220 OHM 0805; Manufacturer: Murata; Product Training Modules: Ferrite Beads and Arrays; Catalog Drawings: BLM21 Series Side BLM21 Series Top; EDA / CAD Models: Download from Accelerated Designs; Filter Type: Power Line; Number of Lines: 1; Impedance @ Frequency: 220 Ohm @ 100MHz; Current Rating (Max): 2A; DC Resistance (DCR) (Max): 45 mOhm; Online Catalog: EMIFIL® BLM21P Series; Other Names: 490-1054-6; Supplier 1: Digi-Key; Supplier Part Number 1: 490-1054-1-ND; Manufacturer Part Number: BLM21PG221SN1D; Stock 1: 969200; Pricing 1: 1=0.1, 10=0.081, 25=0.0732, 50=0.0538, 100=0.0464, 250=0.0366, 500=0.0309, 1000=0.0261 (USD); Standard Package: 1; Category: Filters; Family: Ferrite Beads and Chips; Series: BLM21P; Packaging: Digi-Reel®; Ratings: -; Operating Temperature: -55°C ~ 125°C; Package / Case: 0805 (2012 Metric); Mounting Type: Surface Mount; Height (Max): 0.041" (1.05mm); Size / Dimension: 0.079" L x 0.049" W (2.00mm x 1.25mm); ComponentLink1URL: https://datasheet.ciiva.com/1012/l0110s0100blm21p-1012288.pdf; ComponentLink1Description: https://datasheet.ciiva.com/1012/l0110s0100blm21p-1012288.pdf
footprint L805
pins: 1, 2

## BMA280
designator U?
ACCEL 2-16G I2C/SPI 10LGA; Manufacturer: Bosch Sensortec; Output Type: I²C, SPI; Axis: X, Y, Z; Acceleration Range: ±2g, 4g, 6g, 8g, 16g; Sensitivity (LSB/g): 4096 (±2g) ~ 512 (±16g); Bandwidth: 8Hz ~ 500Hz; Voltage - Supply: 1.62 V ~ 3.6 V; Supplier 1: Digi-Key; Manufacturer Part Number: BMA280; RoHS: RoHS Compliant; Category: Sensors, Transducers; Stock 1: 5006; Pricing 1: 1=2.44, 5=2.31, 10=1.98, 25=1.584, 50=1.452, 100=1.32, 500=1.155, 1000=1.023, 5000=0.957 (USD); Package / Case: 12-VFLGA; Packaging: Cut Tape (CT); ComponentLink1URL: https://ae-bst.resource.bosch.com/media/_tech/media/datasheets/BST-BMA280-DS000-11_published.pdf; ComponentLink1Description: https://ae-bst.resource.bosch.com/media/_tech/media/datasheets/BST-BMA280-DS000-11_published.pdf; Supplier Part Number 1: 828-1033-1-ND; Part Status: Active; Type: Digital; Sensitivity (mV/g): -; Features: Adjustable Bandwidth, Selectable Low Pass Filter, Selectable Scale, Sleep Mode, Temperature Sensor; Operating Temperature: -40°C ~ 85°C (TA); Mounting Type: Surface Mount; Supplier Device Package: 12-LGA (2x2)
footprint BMA255
pins: 1 SDO, 2 SDx, 3 VDDIO, 4 NC, 5 INT1, 6 INT2, 7 VDD, 8 GNDIO, 9 GND, 10 CSB, 11 PS, 12 SCx

## Borne3
designator P?  (no BOM)
Receptor 3 vias 90 graus.; Manufacturer Part Number: BR8MN1-03 Borne
footprint Plug 3P  5.08mm
pins: 1, 2, 3

## BQ24195RGET
designator U?
IC CHRG MGMT LI-ION/POL 24VQFN; Manufacturer: Texas Instruments; Battery Chemistry: Lithium-Ion/Polymer; Number of Cells: 1; Current - Charging: Constant - Programmable; Fault Protection: Over Current, Over Temperature, Over Voltage; Charge Current - Max: 4.5A; Battery Pack Voltage: 4.2V; Voltage - Supply (Max): 17V; Interface: I²C; Supplier 1: Digi-Key; Supplier Part Number 1: 296-35048-1-ND; Manufacturer Part Number: BQ24195RGET; RoHS: RoHS Compliant; Category: Integrated Circuits (ICs); Stock 1: 553; Pricing 1: 1=3.45, 10=3.101, 100=2.5408 (USD); Packaging: Cut Tape (CT); Part Status: Active; Programmable Features: -; Operating Temperature: -40°C ~ 85°C (TA); Package / Case: 24-VFQFN Exposed Pad; Supplier Device Package: 24-VQFN (4x4); Base Part Number: BQ24195; ComponentLink1URL: http://www.ti.com/lit/ds/symlink/bq24195.pdf; ComponentLink1Description: http://www.ti.com/lit/ds/symlink/bq24195.pdf
footprint VQFN-24
pins: 1 VBUS, 2 D+, 3 D-, 4 STAT, 5 SCL, 6 SDA, 7 INT, 8 OTG, 9 ~{CE}, 10 ILM, 11 TS1, 12 TS2, 13 BAT, 14 BAT, 15 SYS, 16 SYS, 17 PGND, 18 PGND, 19 SW, 20 SW, 21 BTST, 22 REGN, 23 PMID, 24 VBUS, 25 GND

## CC0603JRX7R9BB104
designator C?, comment 0.1uF
CAP CER 0.1UF 50V X7R 0603; Manufacturer: Yageo; Manufacturer Part Number: CC0603JRX7R9BB104; Tolerance: ±5%; Notification: Current market demand for these product types have resulted in fluctuating and extending lead times. Lead times may differ.; Supplier 1: Digi-Key; Stock 1: 43443; Pricing 1: 1=0.1, 10=0.051, 100=0.0228, 500=0.0163, 1000=0.01281 (USD); Category: Capacitors; Packaging: Cut Tape (CT); Voltage - Rated: 50V; Temperature Coefficient: X7R; Mounting Type: Surface Mount, MLCC; Operating Temperature: -55°C ~ 125°C; Applications: General Purpose; Ratings: -; Package / Case: 0603 (1608 Metric); Size / Dimension: 0.063" L x 0.032" W (1.60mm x 0.80mm); Height - Seated (Max): -; Thickness (Max): 0.035" (0.90mm); Lead Spacing: -; Features: -; Lead Style: -; ComponentLink1URL: http://www.yageo.com/documents/recent/UPY-GPHC_X7R_6.3V-to-50V_18.pdf; ComponentLink1Description: http://www.yageo.com/documents/recent/UPY-GPHC_X7R_6.3V-to-50V_18.pdf; Supplier Part Number 1: 311-1779-1-ND; RoHS: RoHS Compliant; Part Status: Active; Failure Rate: -; Supplier 2: Future Electronics; Supplier Part Number 2: CC0603JRX7R9BB104-CUTT
footprint C603
pins: 1, 2

## CGA3E1X7R1V105K080AC
designator C?, comment 1uF
Multilayer Ceramic Capacitors MLCC - SMD/SMT 0603 1uF 35volts X7R 10% T=0.8mm; Manufacturer: TDK Corporation; Manufacturer Part Number: CGA3E1X7R1V105K080AC; Voltage - Rated: 35V; Supplier 1: Digi-Key; Supplier Part Number 1: 445-174215-1-ND; Stock 1: 40000; Pricing 1: 1=0.3, 10=0.207, 100=0.1173, 500=0.0828, 1000=0.07245 (USD); RoHS: RoHS Compliant; Tolerance: ±10%; Packaging: Cut Tape (CT); Package / Case: 0603 (1608 Metric); ComponentLink1URL: https://product.tdk.com/info/en/catalog/datasheets/mlcc_automotive_general_en.pdf; ComponentLink1Description: https://product.tdk.com/info/en/catalog/datasheets/mlcc_automotive_general_en.pdf; Category: Capacitors; Part Status: Active; Temperature Coefficient: X7R; Operating Temperature: -55°C ~ 125°C; Features: -; Ratings: AEC-Q200; Applications: Automotive; Failure Rate: -; Mounting Type: Surface Mount, MLCC; Size / Dimension: 0.063" L x 0.032" W (1.60mm x 0.80mm); Height - Seated (Max): -; Thickness (Max): 0.035" (0.90mm); Lead Spacing: -; Lead Style: -
footprint C603
pins: 1, 2

## CGA3E2C0G1H330J080AA
designator C?, comment 33pF
CAP CER 33PF 50V C0G 0603; Manufacturer: TDK Corporation; Manufacturer Part Number: CGA3E2C0G1H330J080AA; Tolerance: ±5%; Temperature Coefficient: C0G, NP0; Supplier 1: Digi-Key; RoHS: RoHS Compliant; Category: Capacitors; Stock 1: 56286; Pricing 1: 1=0.1, 10=0.063, 100=0.0279, 500=0.0199, 1000=0.01564 (USD); Packaging: Cut Tape (CT); Part Status: Active; Voltage - Rated: 50V; Operating Temperature: -55°C ~ 125°C; Features: -; Ratings: AEC-Q200; Applications: Automotive; Failure Rate: -; Mounting Type: Surface Mount, MLCC; Package / Case: 0603 (1608 Metric); Size / Dimension: 0.063" L x 0.032" W (1.60mm x 0.80mm); Height - Seated (Max): -; Thickness (Max): 0.035" (0.90mm); Lead Spacing: -; Lead Style: -; ComponentLink1URL: https://product.tdk.com/info/en/catalog/datasheets/mlcc_automotive_general_en.pdf; ComponentLink1Description: https://product.tdk.com/info/en/catalog/datasheets/mlcc_automotive_general_en.pdf; Supplier Part Number 1: 445-5634-1-ND
footprint C603
pins: 1, 2

## CGA3E3X7R1H224K080AB
designator C?, comment 220nF
CAP CER 0.22UF 50V X7R 0603; Manufacturer: TDK Corporation; Manufacturer Part Number: CGA3E3X7R1H224K080AB; Tolerance: ±10%; Supplier 1: Digi-Key; RoHS: RoHS Compliant; Category: Capacitors; Stock 1: 122988; Pricing 1: 1=0.25, 10=0.171, 100=0.0865, 500=0.0592, 1000=0.05237 (USD); Packaging: Cut Tape (CT); Part Status: Active; Voltage - Rated: 50V; Temperature Coefficient: X7R; Operating Temperature: -55°C ~ 125°C; Features: -; Ratings: AEC-Q200; Applications: Automotive; Failure Rate: -; Mounting Type: Surface Mount, MLCC; Package / Case: 0603 (1608 Metric); Size / Dimension: 0.063" L x 0.032" W (1.60mm x 0.80mm); Height - Seated (Max): -; Thickness (Max): 0.035" (0.90mm); Lead Spacing: -; Lead Style: -; ComponentLink1URL: https://product.tdk.com/info/en/catalog/datasheets/mlcc_automotive_general_en.pdf; ComponentLink1Description: https://product.tdk.com/info/en/catalog/datasheets/mlcc_automotive_general_en.pdf; Supplier Part Number 1: 445-6926-1-ND
footprint C603
pins: 1, 2

## CGB3B1X5R1A475K055AC
designator C?, comment 4.7uF  Supplier Part Number 1: CL10A475KP8NNNC-CUTT  Supplier Part Number 2: 1276-1044-6-ND  Supplier Part Number 3: 1276-1044-1-ND
4.7µF ±10% 10V X5R Ceramic Capacitor -55°C ~ 85°C Surface Mount, MLCC 0603 (1608 Metric) 0.063" L x 0.031" W (1.60mm x 0.80mm); Manufacturer: TDK Corporation; Manufacturer Part Number: CGB3B1X5R1A475K055AC; Notification: Current market demand for these product types have resulted in fluctuating and extending lead times. Lead times may differ.; RoHS: RoHS Compliant; Category: Capacitors; Packaging: Cut Tape (CT); Part Status: Active; Tolerance: ±10%; Voltage - Rated: 10V; Temperature Coefficient: X5R; Operating Temperature: -55°C ~ 85°C; Features: Low Profile; Ratings: -; Applications: General Purpose; Failure Rate: -; Mounting Type: Surface Mount, MLCC; Package / Case: 0603 (1608 Metric); Size / Dimension: 0.063" L x 0.032" W (1.60mm x 0.80mm); Height - Seated (Max): -; Thickness (Max): 0.022" (0.55mm); Lead Spacing: -; Lead Style: -; ComponentLink1URL: https://product.tdk.com/info/en/catalog/datasheets/mlcc_commercial_lowprofile_en.pdf; ComponentLink1Description: https://product.tdk.com/info/en/catalog/datasheets/mlcc_commercial_lowprofile_en.pdf; Supplier 1: Future Electronics; Supplier 2: Digi-Key; Supplier 3: Digi-Key
footprint C603
pins: 1, 2

## CIG22L100MNE
designator L?, comment 10uF
FIXED IND 10UH 600MA 323 MOHM; Manufacturer: Samsung Electro-Mechanics; Manufacturer Part Number: CIG22L100MNE; Type: Multilayer; Tolerance: ±20%; Shielding: Shielded; Supplier 1: Digi-Key; Supplier Part Number 1: 1276-6215-1-ND; RoHS: RoHS Compliant; Category: Inductors, Coils, Chokes; Stock 1: 110369; Pricing 1: 1=0.17, 10=0.155, 100=0.1035, 500=0.08626, 1000=0.07245 (USD); Packaging: Cut Tape (CT); Part Status: Active; Material - Core: -; DC Resistance (DCR): 323 mOhm; Q @ Freq: -; Ratings: -; Operating Temperature: -40°C ~ 125°C; Mounting Type: Surface Mount; Package / Case: 1008 (2520 Metric); Size / Dimension: 0.098" L x 0.079" W (2.50mm x 2.00mm); ComponentLink1URL: http://www.samsungsem.com/kr/support/product-search/inductor/CIG22L100MNE.jsp; ComponentLink1Description: http://www.samsungsem.com/kr/support/product-search/inductor/CIG22L100MNE.jsp
footprint Model Name (Footprint not found)
footprint CIG22L
pins: 1, 2

## CL10A226KQ8NRNE
designator C?, comment 22uF
CAP CER 22UF 6.3V X5R 0603; Manufacturer: Samsung Electro-Mechanics; Manufacturer Part Number: CL10A226KQ8NRNE; Tolerance: ±10%; Notification: Current market demand for these product types have resulted in fluctuating and extending lead times. Lead times may differ.; Supplier 1: Digi-Key; Supplier Part Number 1: 1276-2867-1-ND; RoHS: RoHS Compliant; Category: Capacitors; Stock 1: 356898; Pricing 1: 1=0.44, 10=0.304, 100=0.1825, 500=0.13688, 1000=0.11559 (USD); Packaging: Cut Tape (CT); Part Status: Active; Voltage - Rated: 6.3V; Temperature Coefficient: X5R; Operating Temperature: -55°C ~ 85°C; Features: -; Ratings: -; Applications: General Purpose; Mounting Type: Surface Mount, MLCC; Package / Case: 0603 (1608 Metric); Size / Dimension: 0.063" L x 0.032" W (1.60mm x 0.80mm); Height - Seated (Max): -; Thickness (Max): 0.035" (0.90mm); Lead Spacing: -; Lead Style: -; ComponentLink1URL: http://www.samsungsem.com/kr/support/product-search/mlcc/CL10A226KQ8NRNE.jsp; ComponentLink1Description: http://www.samsungsem.com/kr/support/product-search/mlcc/CL10A226KQ8NRNE.jsp
footprint C603
pins: 1, 2

## CPDU5V0C-HF
designator D?  (value not drawn)
TVS DIODE 5V 17V 0603; Manufacturer: Comchip Technology; Type: Zener; Voltage - Breakdown (Min): 6.1V; Current - Peak Pulse (10/1000µs): 4A (8/20µs); Power Line Protection: No; Capacitance @ Frequency: 25pF @ 1MHz; Supplier 1: Digi-Key; Manufacturer Part Number: CPDU5V0C-HF; RoHS: RoHS Compliant; Category: Circuit Protection; Stock 1: 39117; Pricing 1: 1=0.35, 10=0.315, 25=0.2268, 100=0.1764, 250=0.11088, 500=0.0945, 1000=0.06426 (USD); Packaging: Cut Tape (CT); Part Status: Active; Voltage - Reverse Standoff (Typ): 5V; Voltage - Clamping (Max) @ Ipp: 17V; Power - Peak Pulse: -; Applications: General Purpose; Operating Temperature: -55°C ~ 125°C (TJ); Mounting Type: Surface Mount; Package / Case: 2-SMD, No Lead; Supplier Device Package: 0603 (1608 Metric); ComponentLink1URL: http://www.comchiptech.com/cms/UserFiles/CPDU5V0C-HF%20RevD388609.pdf; ComponentLink1Description: http://www.comchiptech.com/cms/UserFiles/CPDU5V0C-HF%20RevD388609.pdf; Supplier Part Number 1: 641-1680-1-ND
footprint R603
pins: 1, 2

## DEA102500LT-6307A1
designator Y?  Supplier Part Number 1: 445-6877-1-ND
2.45GHz Center Frequency Low Pass RF Filter (Radio Frequency) 100MHz Bandwidth 0.33dB 0402 (1005 Metric), 4 PC Pad; Supplier 1: Digi-Key
footprint DEA102500LT-6307A1 (Low Pass Filters for Bluetooth & 2.4GHz W-LAN)
pins: 1 IN, 2 GND, 3 OUT, 4 GND

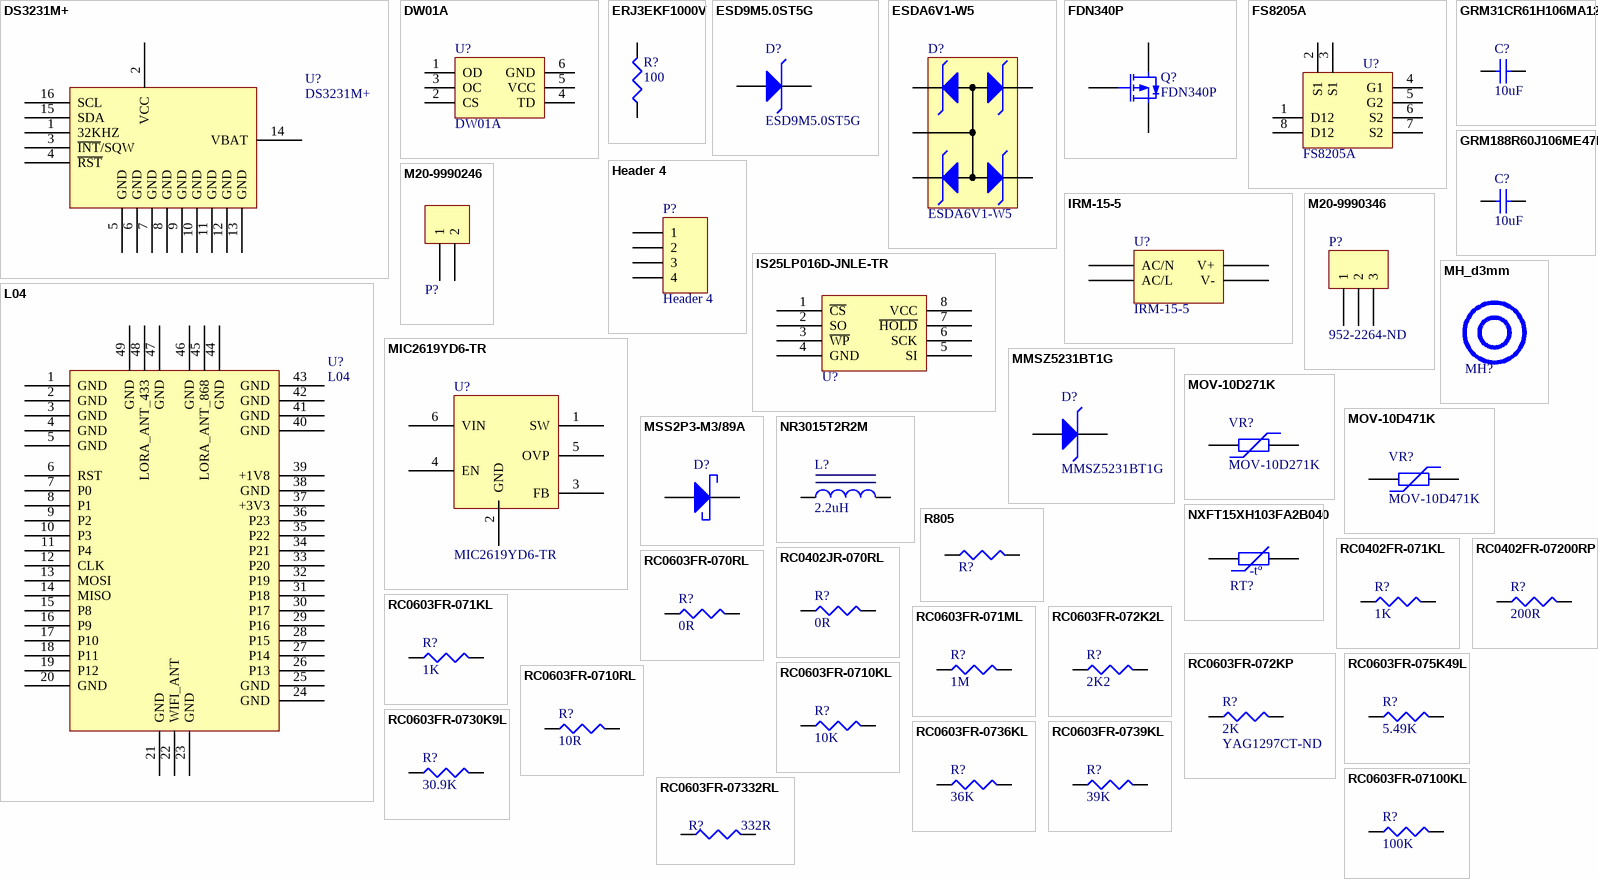
[diagram p1: symbols DS3231M+ to RC0603FR-07332RL]

## DS3231M+
designator U?
IC RTC CLK/CALENDAR I2C 16-SOIC; Manufacturer: Maxim Integrated; Manufacturer Part Number: DS3231M+TRL; Time Format: HH:MM:SS (12/24 hr); Date Format: YY-MM-DD-dd; Interface: I²C, 2-Wire Serial; Voltage - Supply: 2.3 V ~ 5.5 V; Current - Timekeeping (Max): 130µA ~ 200µA @ 3.63V ~ 5.5V; Supplier 1: Digi-Key; RoHS: RoHS Compliant; Category: Integrated Circuits (ICs); Stock 1: 587; Pricing 1: 1=8.38, 10=7.905, 25=6.324, 50=6.0078, 100=5.5335, 250=5.24896, 500=5.05922 (USD); Packaging: Cut Tape (CT); Part Status: Active; Type: Clock/Calendar; Features: Alarm, Leap Year, Square Wave Output; Memory Size: -; Voltage - Supply, Battery: 2.3 V ~ 5.5 V; Operating Temperature: -40°C ~ 85°C; Mounting Type: Surface Mount; Package / Case: 16-SOIC (0.295", 7.50mm Width); Supplier Device Package: 16-SOIC; ComponentLink1URL: http://datasheets.maximintegrated.com/en/ds/DS3231M.pdf; ComponentLink1Description: http://datasheets.maximintegrated.com/en/ds/DS3231M.pdf; Supplier Part Number 1: DS3231M+TRLCT-ND
footprint SOIC-16 300 mil body
pins: 1 32KHZ, 2 VCC, 3 ~{INT}/SQW, 4 ~{RST}, 5 GND, 6 GND, 7 GND, 8 GND, 9 GND, 10 GND, 11 GND, 12 GND, 13 GND, 14 VBAT, 15 SDA, 16 SCL

## DW01A
designator U?
Battery protection IC; Manufacturer part number: DW01A-G; ComponentLink1Description: Supplier; ComponentLink1URL: https://www.ic-fortune.com/eng/new_product1_1_1.asp?pno=DW01A-G
footprint SOT-23_6 (SOT23, 6-Leads, Body 2,90x2,80mm, Pitch 0,95mm, IPC Medium Density)
pins: 1 OD, 2 CS, 3 OC, 4 TD, 5 VCC, 6 GND